# Altium integrated library Microchip Microcontroller 8-Bit PIC18.IntLib: 1312 symbols (part 5 of 56)
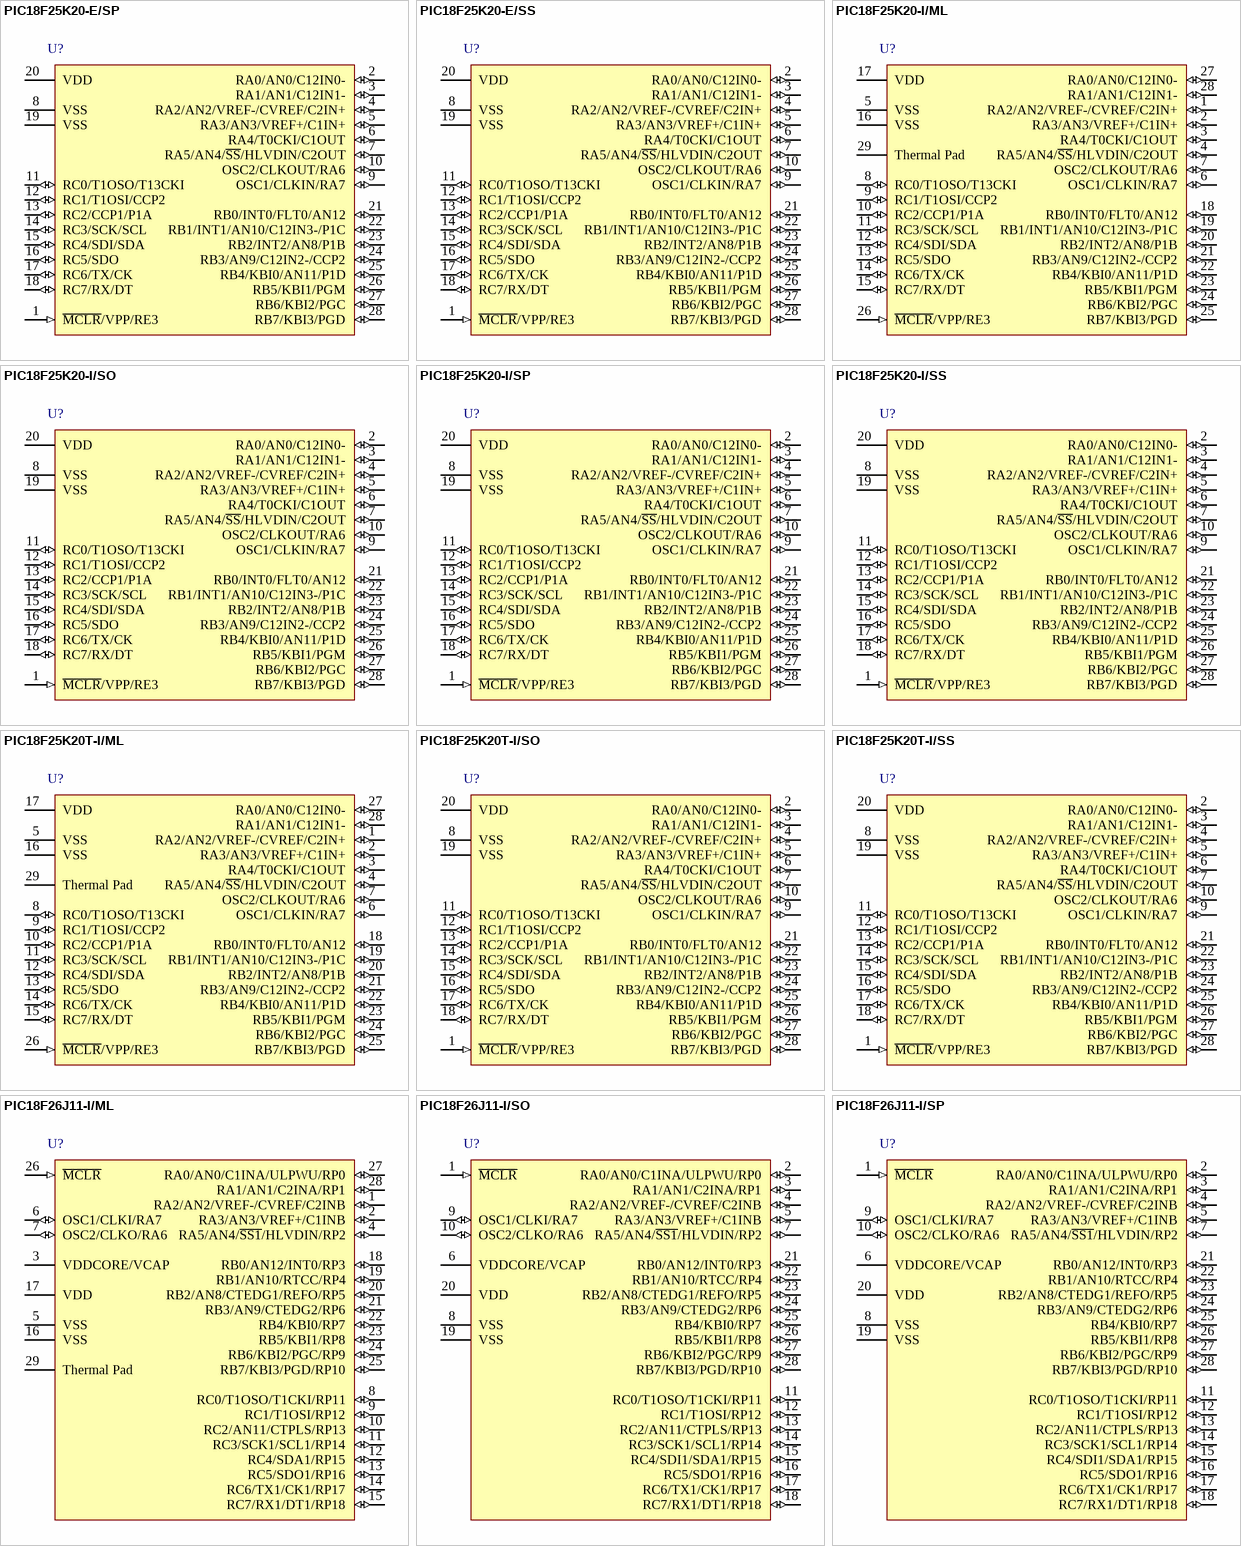
[diagram p153: symbols PIC18F25K20-E/SP to PIC18F26J11-I/SP]

## PIC18F25K20T-I/SO
designator U?
Flash Microcontroller with 10-Bit A/D and nanoWatt Technology, 32K Flash, 28-Pin SOIC, Industrial Temperature Range, Tape and Reel; Published: 29-Jan-2009; LatestRevisionDate: 02-Dec-2009; LatestRevisionNote: Updated to datasheet revision F, Sep-2009; DatasheetVersion: revF, Sep-2009; PackageVersion: revBB, Aug-2009; PackageReference: SOIC-SO28; Publisher: Altium Limited; PackageDescription: 28-Lead Plastic Small Outline (SO) - Wide 7.50mm Body [SOIC]; Supplier 1: Digi-Key; Supplier Part Number 1: PIC18F25K20T-I/SOTR-ND; Code_JEDEC: MS-013; ComponentLink1Description: Datasheet; ComponentLink1URL: http://ww1.microchip.com/downloads/en/DeviceDoc/41303F.pdf; ComponentLink2Description: Packaging Specification; ComponentLink2URL: http://www.microchip.com/stellent/groups/techpub_sg/documents/packagingspec/en012702.pdf; ComponentLink3Description: Microchip.com Home; ComponentLink3URL: http://www.microchip.com/
footprint SOIC-SO28_N (SOIC, 28-Leads, Body 17.9x7.5mm, Pitch 1.27mm, IPC Medium Density)
footprint SOIC-SO28_L (SOIC, 28-Leads, Body 17.9x7.5mm, Pitch 1.27mm, IPC High Density)
footprint SOIC-SO28_M (SOIC, 28-Leads, Body 17.9x7.5mm, Pitch 1.27mm, IPC Low Density)
pins: 1 ~{MCLR}/VPP/RE3 (in), 2 RA0/AN0/C12IN0- (io), 3 RA1/AN1/C12IN1- (io), 4 RA2/AN2/VREF-/CVREF/C2IN+ (io), 5 RA3/AN3/VREF+/C1IN+ (io), 6 RA4/T0CKI/C1OUT (io), 7 RA5/AN4/~{SS}/HLVDIN/C2OUT (io), 8 VSS (power), 9 OSC1/CLKIN/RA7 (io), 10 OSC2/CLKOUT/RA6 (io), 11 RC0/T1OSO/T13CKI (io), 12 RC1/T1OSI/CCP2 (io), 13 RC2/CCP1/P1A (io), 14 RC3/SCK/SCL (io), 15 RC4/SDI/SDA (io), 16 RC5/SDO (io), 17 RC6/TX/CK (io), 18 RC7/RX/DT (io), 19 VSS (power), 20 VDD (power), 21 RB0/INT0/FLT0/AN12 (io), 22 RB1/INT1/AN10/C12IN3-/P1C (io), 23 RB2/INT2/AN8/P1B (io), 24 RB3/AN9/C12IN2-/CCP2 (io), 25 RB4/KBI0/AN11/P1D (io), 26 RB5/KBI1/PGM (io), 27 RB6/KBI2/PGC (io), 28 RB7/KBI3/PGD (io)

## PIC18F25K20T-I/SS
designator U?
Flash Microcontroller with 10-Bit A/D and nanoWatt Technology, 32K Flash, 28-Pin SSOP, Industrial Temperature Range, Tape and Reel; Published: 29-Jan-2009; LatestRevisionDate: 02-Dec-2009; LatestRevisionNote: Updated to datasheet revision F, Sep-2009; DatasheetVersion: revF, Sep-2009; PackageVersion: revBB, Aug-2009; PackageReference: SSOP-SS28; Publisher: Altium Limited; PackageDescription: 28-Lead Plastic Shrink Small Outline (SS) - 5.3mm Body [SSOP]; Supplier 1: Digi-Key; Supplier Part Number 1: PIC18F25K20T-I/SSTR-ND; Supplier 2: Digi-Key; Supplier Part Number 2: PIC18F25K20T-I/SSCT-ND; Supplier 3: Digi-Key; Supplier Part Number 3: PIC18F25K20T-I/SSDKR-ND; Supplier 4: Farnell; Supplier Part Number 4: 1788566; Code_JEDEC: MS-150; Code_IPC: SOP65P780-28; ComponentLink1Description: Datasheet; ComponentLink1URL: http://ww1.microchip.com/downloads/en/DeviceDoc/41303F.pdf; ComponentLink2Description: Packaging Specification; ComponentLink2URL: http://www.microchip.com/stellent/groups/techpub_sg/documents/packagingspec/en012702.pdf; ComponentLink3Description: Microchip.com Home; ComponentLink3URL: http://www.microchip.com/
footprint SSOP-SS28_N (SOP, 28-Leads, Body 10.2x5.2mm, Pitch 0.65mm, IPC Medium Density)
footprint SSOP-SS28_L (SOP, 28-Leads, Body 10.2x5.2mm, Pitch 0.65mm, IPC High Density)
footprint SSOP-SS28_M (SOP, 28-Leads, Body 10.2x5.2mm, Pitch 0.65mm, IPC Low Density)
pins: 1 ~{MCLR}/VPP/RE3 (in), 2 RA0/AN0/C12IN0- (io), 3 RA1/AN1/C12IN1- (io), 4 RA2/AN2/VREF-/CVREF/C2IN+ (io), 5 RA3/AN3/VREF+/C1IN+ (io), 6 RA4/T0CKI/C1OUT (io), 7 RA5/AN4/~{SS}/HLVDIN/C2OUT (io), 8 VSS (power), 9 OSC1/CLKIN/RA7 (io), 10 OSC2/CLKOUT/RA6 (io), 11 RC0/T1OSO/T13CKI (io), 12 RC1/T1OSI/CCP2 (io), 13 RC2/CCP1/P1A (io), 14 RC3/SCK/SCL (io), 15 RC4/SDI/SDA (io), 16 RC5/SDO (io), 17 RC6/TX/CK (io), 18 RC7/RX/DT (io), 19 VSS (power), 20 VDD (power), 21 RB0/INT0/FLT0/AN12 (io), 22 RB1/INT1/AN10/C12IN3-/P1C (io), 23 RB2/INT2/AN8/P1B (io), 24 RB3/AN9/C12IN2-/CCP2 (io), 25 RB4/KBI0/AN11/P1D (io), 26 RB5/KBI1/PGM (io), 27 RB6/KBI2/PGC (io), 28 RB7/KBI3/PGD (io)

## PIC18F26J11-I/ML
designator U?
Low Power, High Performance Microcontroller with nanoWatt XLP Technology, 28-pin QFN, Industrial Temperature; Published: 2-Dec-2009; DatasheetVersion: revC, Oct-2009; PackageVersion: revBB, Aug-2009; PackageReference: QFN-ML28; Publisher: Altium Limited; PackageDescription: 28-Lead Plastic Quad Flat, No Lead Package (ML) - 6x6 mm Body [QFN] with 0.55 mm Contact Length; Supplier 1: Digi-Key; Supplier Part Number 1: PIC18F26J11-I/ML-ND; Supplier 2: Farnell; Supplier Part Number 2: 1707636; Code_JEDEC: MO-220; Code_IPC: QFN65P600X600-28V; ComponentLink1Description: Datasheet; ComponentLink1URL: http://ww1.microchip.com/downloads/en/DeviceDoc/39932c.pdf; ComponentLink2Description: Packaging Specification; ComponentLink2URL: http://www.microchip.com/stellent/groups/techpub_sg/documents/packagingspec/en012702.pdf; ComponentLink3Description: Microchip.com Home; ComponentLink3URL: http://www.microchip.com/
footprint QFN-ML28_N (QFN, 28-Leads, Body 6x6 mm, Pitch 0.65mm, IPC Medium Density)
footprint QFN-ML28_L (QFN, 28-Leads, Body 6x6 mm, Pitch 0.65mm, IPC High Density)
footprint QFN-ML28_M (QFN, 28-Leads, Body 6x6 mm, Pitch 0.65mm, IPC Low Density)
pins: 1 RA2/AN2/VREF-/CVREF/C2INB (io), 2 RA3/AN3/VREF+/C1INB (io), 3 VDDCORE/VCAP (power), 4 RA5/AN4/~{SS1}/HLVDIN/RP2 (io), 5 VSS (power), 6 OSC1/CLKI/RA7 (io), 7 OSC2/CLKO/RA6 (io), 8 RC0/T1OSO/T1CKI/RP11 (io), 9 RC1/T1OSI/RP12 (io), 10 RC2/AN11/CTPLS/RP13 (io), 11 RC3/SCK1/SCL1/RP14 (io), 12 RC4/SDA1/RP15 (io), 13 RC5/SDO1/RP16 (io), 14 RC6/TX1/CK1/RP17 (io), 15 RC7/RX1/DT1/RP18 (io), 16 VSS (power), 17 VDD (power), 18 RB0/AN12/INT0/RP3 (io), 19 RB1/AN10/RTCC/RP4 (io), 20 RB2/AN8/CTEDG1/REFO/RP5 (io), 21 RB3/AN9/CTEDG2/RP6 (io), 22 RB4/KBI0/RP7 (io), 23 RB5/KBI1/RP8 (io), 24 RB6/KBI2/PGC/RP9 (io), 25 RB7/KBI3/PGD/RP10 (io), 26 ~{MCLR} (in), 27 RA0/AN0/C1INA/ULPWU/RP0 (io), 28 RA1/AN1/C2INA/RP1 (io), 29 Thermal Pad (power)

## PIC18F26J11-I/SO
designator U?
Low Power, High Performance Microcontroller with nanoWatt XLP Technology, 28-pin SOIC, Industrial Temperature; Published: 2-Dec-2009; DatasheetVersion: revC, Oct-2009; PackageVersion: revBB, Aug-2009; PackageReference: SOIC-SO28; Publisher: Altium Limited; PackageDescription: 28-Lead Plastic Small Outline (SO) - Wide 7.50mm Body [SOIC]; Supplier 1: Digi-Key; Supplier Part Number 1: PIC18F26J11-I/SO-ND; Supplier 2: Farnell; Supplier Part Number 2: 1698918; Code_JEDEC: MS-013; ComponentLink1Description: Datasheet; ComponentLink1URL: http://ww1.microchip.com/downloads/en/DeviceDoc/39932c.pdf; ComponentLink2Description: Packaging Specification; ComponentLink2URL: http://www.microchip.com/stellent/groups/techpub_sg/documents/packagingspec/en012702.pdf; ComponentLink3Description: Microchip.com Home; ComponentLink3URL: http://www.microchip.com/
footprint SOIC-SO28_N (SOIC, 28-Leads, Body 17.9x7.5mm, Pitch 1.27mm, IPC Medium Density)
footprint SOIC-SO28_L (SOIC, 28-Leads, Body 17.9x7.5mm, Pitch 1.27mm, IPC High Density)
footprint SOIC-SO28_M (SOIC, 28-Leads, Body 17.9x7.5mm, Pitch 1.27mm, IPC Low Density)
pins: 1 ~{MCLR} (in), 2 RA0/AN0/C1INA/ULPWU/RP0 (io), 3 RA1/AN1/C2INA/RP1 (io), 4 RA2/AN2/VREF-/CVREF/C2INB (io), 5 RA3/AN3/VREF+/C1INB (io), 6 VDDCORE/VCAP (power), 7 RA5/AN4/~{SS1}/HLVDIN/RP2 (io), 8 VSS (power), 9 OSC1/CLKI/RA7 (io), 10 OSC2/CLKO/RA6 (io), 11 RC0/T1OSO/T1CKI/RP11 (io), 12 RC1/T1OSI/RP12 (io), 13 RC2/AN11/CTPLS/RP13 (io), 14 RC3/SCK1/SCL1/RP14 (io), 15 RC4/SDI1/SDA1/RP15 (io), 16 RC5/SDO1/RP16 (io), 17 RC6/TX1/CK1/RP17 (io), 18 RC7/RX1/DT1/RP18 (io), 19 VSS (power), 20 VDD (power), 21 RB0/AN12/INT0/RP3 (io), 22 RB1/AN10/RTCC/RP4 (io), 23 RB2/AN8/CTEDG1/REFO/RP5 (io), 24 RB3/AN9/CTEDG2/RP6 (io), 25 RB4/KBI0/RP7 (io), 26 RB5/KBI1/RP8 (io), 27 RB6/KBI2/PGC/RP9 (io), 28 RB7/KBI3/PGD/RP10 (io)

## PIC18F26J11-I/SP
designator U?
Low Power, High Performance Microcontroller with nanoWatt XLP Technology, 28-pin SPDIP, Industrial Temperature; Published: 2-Dec-2009; DatasheetVersion: revC, Oct-2009; PackageVersion: revBB, Aug-2009; PackageReference: SPDIP300-SP28; Publisher: Altium Limited; PackageDescription: 28-Lead Skinny Plastic Dual In-Line (SP) - 300 mil Body [SPDIP]; Supplier 1: Digi-Key; Supplier Part Number 1: PIC18F26J11-I/SP-ND; Supplier 2: Farnell; Supplier Part Number 2: 1702899; ComponentLink1Description: Datasheet; ComponentLink1URL: http://ww1.microchip.com/downloads/en/DeviceDoc/39932c.pdf; ComponentLink2Description: Packaging Specification; ComponentLink2URL: http://www.microchip.com/stellent/groups/techpub_sg/documents/packagingspec/en012702.pdf; ComponentLink3Description: Microchip.com Home; ComponentLink3URL: http://www.microchip.com/
footprint SPDIP300-SP28 (DIP, 28-Leads, Row Spacing 7.62mm, Pitch 2.54mm, Body 34.9x6.8mm)
pins: 1 ~{MCLR} (in), 2 RA0/AN0/C1INA/ULPWU/RP0 (io), 3 RA1/AN1/C2INA/RP1 (io), 4 RA2/AN2/VREF-/CVREF/C2INB (io), 5 RA3/AN3/VREF+/C1INB (io), 6 VDDCORE/VCAP (power), 7 RA5/AN4/~{SS1}/HLVDIN/RP2 (io), 8 VSS (power), 9 OSC1/CLKI/RA7 (io), 10 OSC2/CLKO/RA6 (io), 11 RC0/T1OSO/T1CKI/RP11 (io), 12 RC1/T1OSI/RP12 (io), 13 RC2/AN11/CTPLS/RP13 (io), 14 RC3/SCK1/SCL1/RP14 (io), 15 RC4/SDI1/SDA1/RP15 (io), 16 RC5/SDO1/RP16 (io), 17 RC6/TX1/CK1/RP17 (io), 18 RC7/RX1/DT1/RP18 (io), 19 VSS (power), 20 VDD (power), 21 RB0/AN12/INT0/RP3 (io), 22 RB1/AN10/RTCC/RP4 (io), 23 RB2/AN8/CTEDG1/REFO/RP5 (io), 24 RB3/AN9/CTEDG2/RP6 (io), 25 RB4/KBI0/RP7 (io), 26 RB5/KBI1/RP8 (io), 27 RB6/KBI2/PGC/RP9 (io), 28 RB7/KBI3/PGD/RP10 (io)

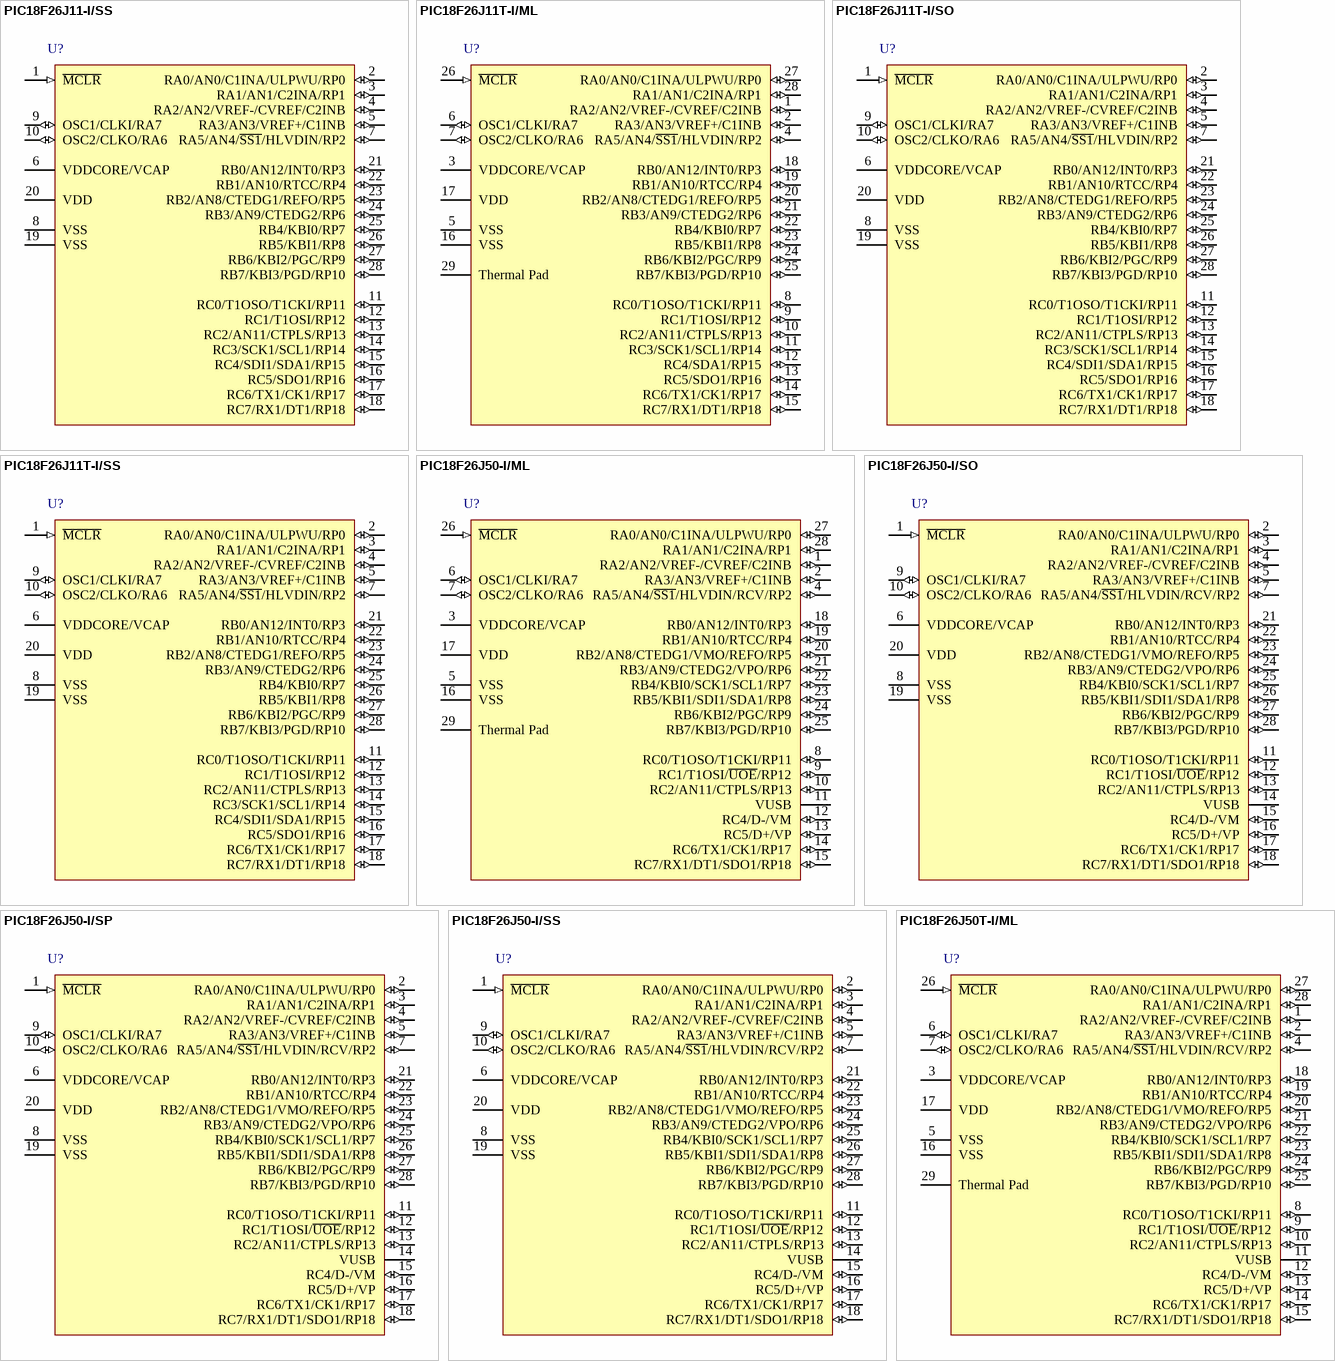
[diagram p10: symbols PIC18F26J11-I/SS to PIC18F26J50T-I/ML]

## PIC18F26J11-I/SS
designator U?
Low Power, High Performance Microcontroller with nanoWatt XLP Technology, 28-pin SSOP, Industrial Temperature; Published: 2-Dec-2009; DatasheetVersion: revC, Oct-2009; PackageVersion: revBB, Aug-2009; PackageReference: SSOP-SS28; Publisher: Altium Limited; PackageDescription: 28-Lead Plastic Shrink Small Outline (SS) - 5.3mm Body [SSOP]; Supplier 1: Digi-Key; Supplier Part Number 1: PIC18F26J11-I/SS-ND; Supplier 2: Farnell; Supplier Part Number 2: 1706306; Code_JEDEC: MS-150; Code_IPC: SOP65P780-28; ComponentLink1Description: Datasheet; ComponentLink1URL: http://ww1.microchip.com/downloads/en/DeviceDoc/39932c.pdf; ComponentLink2Description: Packaging Specification; ComponentLink2URL: http://www.microchip.com/stellent/groups/techpub_sg/documents/packagingspec/en012702.pdf; ComponentLink3Description: Microchip.com Home; ComponentLink3URL: http://www.microchip.com/
footprint SSOP-SS28_N (SOP, 28-Leads, Body 10.2x5.2mm, Pitch 0.65mm, IPC Medium Density)
footprint SSOP-SS28_L (SOP, 28-Leads, Body 10.2x5.2mm, Pitch 0.65mm, IPC High Density)
footprint SSOP-SS28_M (SOP, 28-Leads, Body 10.2x5.2mm, Pitch 0.65mm, IPC Low Density)
pins: 1 ~{MCLR} (in), 2 RA0/AN0/C1INA/ULPWU/RP0 (io), 3 RA1/AN1/C2INA/RP1 (io), 4 RA2/AN2/VREF-/CVREF/C2INB (io), 5 RA3/AN3/VREF+/C1INB (io), 6 VDDCORE/VCAP (power), 7 RA5/AN4/~{SS1}/HLVDIN/RP2 (io), 8 VSS (power), 9 OSC1/CLKI/RA7 (io), 10 OSC2/CLKO/RA6 (io), 11 RC0/T1OSO/T1CKI/RP11 (io), 12 RC1/T1OSI/RP12 (io), 13 RC2/AN11/CTPLS/RP13 (io), 14 RC3/SCK1/SCL1/RP14 (io), 15 RC4/SDI1/SDA1/RP15 (io), 16 RC5/SDO1/RP16 (io), 17 RC6/TX1/CK1/RP17 (io), 18 RC7/RX1/DT1/RP18 (io), 19 VSS (power), 20 VDD (power), 21 RB0/AN12/INT0/RP3 (io), 22 RB1/AN10/RTCC/RP4 (io), 23 RB2/AN8/CTEDG1/REFO/RP5 (io), 24 RB3/AN9/CTEDG2/RP6 (io), 25 RB4/KBI0/RP7 (io), 26 RB5/KBI1/RP8 (io), 27 RB6/KBI2/PGC/RP9 (io), 28 RB7/KBI3/PGD/RP10 (io)

## PIC18F26J11T-I/ML
designator U?
Low Power, High Performance Microcontroller with nanoWatt XLP Technology, 28-pin QFN, Industrial Temperature, Tape and Reel; Published: 2-Dec-2009; DatasheetVersion: revC, Oct-2009; PackageVersion: revBB, Aug-2009; PackageReference: QFN-ML28; Publisher: Altium Limited; PackageDescription: 28-Lead Plastic Quad Flat, No Lead Package (ML) - 6x6 mm Body [QFN] with 0.55 mm Contact Length; Supplier 1: Digi-Key; Supplier Part Number 1: PIC18F26J11T-I/ML-ND; Code_JEDEC: MO-220; Code_IPC: QFN65P600X600-28V; ComponentLink1Description: Datasheet; ComponentLink1URL: http://ww1.microchip.com/downloads/en/DeviceDoc/39932c.pdf; ComponentLink2Description: Packaging Specification; ComponentLink2URL: http://www.microchip.com/stellent/groups/techpub_sg/documents/packagingspec/en012702.pdf; ComponentLink3Description: Microchip.com Home; ComponentLink3URL: http://www.microchip.com/
footprint QFN-ML28_N (QFN, 28-Leads, Body 6x6 mm, Pitch 0.65mm, IPC Medium Density)
footprint QFN-ML28_L (QFN, 28-Leads, Body 6x6 mm, Pitch 0.65mm, IPC High Density)
footprint QFN-ML28_M (QFN, 28-Leads, Body 6x6 mm, Pitch 0.65mm, IPC Low Density)
pins: 1 RA2/AN2/VREF-/CVREF/C2INB (io), 2 RA3/AN3/VREF+/C1INB (io), 3 VDDCORE/VCAP (power), 4 RA5/AN4/~{SS1}/HLVDIN/RP2 (io), 5 VSS (power), 6 OSC1/CLKI/RA7 (io), 7 OSC2/CLKO/RA6 (io), 8 RC0/T1OSO/T1CKI/RP11 (io), 9 RC1/T1OSI/RP12 (io), 10 RC2/AN11/CTPLS/RP13 (io), 11 RC3/SCK1/SCL1/RP14 (io), 12 RC4/SDA1/RP15 (io), 13 RC5/SDO1/RP16 (io), 14 RC6/TX1/CK1/RP17 (io), 15 RC7/RX1/DT1/RP18 (io), 16 VSS (power), 17 VDD (power), 18 RB0/AN12/INT0/RP3 (io), 19 RB1/AN10/RTCC/RP4 (io), 20 RB2/AN8/CTEDG1/REFO/RP5 (io), 21 RB3/AN9/CTEDG2/RP6 (io), 22 RB4/KBI0/RP7 (io), 23 RB5/KBI1/RP8 (io), 24 RB6/KBI2/PGC/RP9 (io), 25 RB7/KBI3/PGD/RP10 (io), 26 ~{MCLR} (in), 27 RA0/AN0/C1INA/ULPWU/RP0 (io), 28 RA1/AN1/C2INA/RP1 (io), 29 Thermal Pad (power)

## PIC18F26J11T-I/SO
designator U?
Low Power, High Performance Microcontroller with nanoWatt XLP Technology, 28-pin SOIC, Industrial Temperature, Tape and Reel; Published: 2-Dec-2009; DatasheetVersion: revC, Oct-2009; PackageVersion: revBB, Aug-2009; PackageReference: SOIC-SO28; Publisher: Altium Limited; PackageDescription: 28-Lead Plastic Small Outline (SO) - Wide 7.50mm Body [SOIC]; Supplier 1: Digi-Key; Supplier Part Number 1: PIC18F26J11T-I/SO-ND; Code_JEDEC: MS-013; ComponentLink1Description: Datasheet; ComponentLink1URL: http://ww1.microchip.com/downloads/en/DeviceDoc/39932c.pdf; ComponentLink2Description: Packaging Specification; ComponentLink2URL: http://www.microchip.com/stellent/groups/techpub_sg/documents/packagingspec/en012702.pdf; ComponentLink3Description: Microchip.com Home; ComponentLink3URL: http://www.microchip.com/
footprint SOIC-SO28_N (SOIC, 28-Leads, Body 17.9x7.5mm, Pitch 1.27mm, IPC Medium Density)
footprint SOIC-SO28_L (SOIC, 28-Leads, Body 17.9x7.5mm, Pitch 1.27mm, IPC High Density)
footprint SOIC-SO28_M (SOIC, 28-Leads, Body 17.9x7.5mm, Pitch 1.27mm, IPC Low Density)
pins: 1 ~{MCLR} (in), 2 RA0/AN0/C1INA/ULPWU/RP0 (io), 3 RA1/AN1/C2INA/RP1 (io), 4 RA2/AN2/VREF-/CVREF/C2INB (io), 5 RA3/AN3/VREF+/C1INB (io), 6 VDDCORE/VCAP (power), 7 RA5/AN4/~{SS1}/HLVDIN/RP2 (io), 8 VSS (power), 9 OSC1/CLKI/RA7 (io), 10 OSC2/CLKO/RA6 (io), 11 RC0/T1OSO/T1CKI/RP11 (io), 12 RC1/T1OSI/RP12 (io), 13 RC2/AN11/CTPLS/RP13 (io), 14 RC3/SCK1/SCL1/RP14 (io), 15 RC4/SDI1/SDA1/RP15 (io), 16 RC5/SDO1/RP16 (io), 17 RC6/TX1/CK1/RP17 (io), 18 RC7/RX1/DT1/RP18 (io), 19 VSS (power), 20 VDD (power), 21 RB0/AN12/INT0/RP3 (io), 22 RB1/AN10/RTCC/RP4 (io), 23 RB2/AN8/CTEDG1/REFO/RP5 (io), 24 RB3/AN9/CTEDG2/RP6 (io), 25 RB4/KBI0/RP7 (io), 26 RB5/KBI1/RP8 (io), 27 RB6/KBI2/PGC/RP9 (io), 28 RB7/KBI3/PGD/RP10 (io)

## PIC18F26J11T-I/SS
designator U?
Low Power, High Performance Microcontroller with nanoWatt XLP Technology, 28-pin SSOP, Industrial Temperature, Tape and Reel; Published: 2-Dec-2009; DatasheetVersion: revC, Oct-2009; PackageVersion: revBB, Aug-2009; PackageReference: SSOP-SS28; Publisher: Altium Limited; PackageDescription: 28-Lead Plastic Shrink Small Outline (SS) - 5.3mm Body [SSOP]; Supplier 1: Digi-Key; Supplier Part Number 1: PIC18F26J11T-I/SS-ND; Code_JEDEC: MS-150; Code_IPC: SOP65P780-28; ComponentLink1Description: Datasheet; ComponentLink1URL: http://ww1.microchip.com/downloads/en/DeviceDoc/39932c.pdf; ComponentLink2Description: Packaging Specification; ComponentLink2URL: http://www.microchip.com/stellent/groups/techpub_sg/documents/packagingspec/en012702.pdf; ComponentLink3Description: Microchip.com Home; ComponentLink3URL: http://www.microchip.com/
footprint SSOP-SS28_N (SOP, 28-Leads, Body 10.2x5.2mm, Pitch 0.65mm, IPC Medium Density)
footprint SSOP-SS28_L (SOP, 28-Leads, Body 10.2x5.2mm, Pitch 0.65mm, IPC High Density)
footprint SSOP-SS28_M (SOP, 28-Leads, Body 10.2x5.2mm, Pitch 0.65mm, IPC Low Density)
pins: 1 ~{MCLR} (in), 2 RA0/AN0/C1INA/ULPWU/RP0 (io), 3 RA1/AN1/C2INA/RP1 (io), 4 RA2/AN2/VREF-/CVREF/C2INB (io), 5 RA3/AN3/VREF+/C1INB (io), 6 VDDCORE/VCAP (power), 7 RA5/AN4/~{SS1}/HLVDIN/RP2 (io), 8 VSS (power), 9 OSC1/CLKI/RA7 (io), 10 OSC2/CLKO/RA6 (io), 11 RC0/T1OSO/T1CKI/RP11 (io), 12 RC1/T1OSI/RP12 (io), 13 RC2/AN11/CTPLS/RP13 (io), 14 RC3/SCK1/SCL1/RP14 (io), 15 RC4/SDI1/SDA1/RP15 (io), 16 RC5/SDO1/RP16 (io), 17 RC6/TX1/CK1/RP17 (io), 18 RC7/RX1/DT1/RP18 (io), 19 VSS (power), 20 VDD (power), 21 RB0/AN12/INT0/RP3 (io), 22 RB1/AN10/RTCC/RP4 (io), 23 RB2/AN8/CTEDG1/REFO/RP5 (io), 24 RB3/AN9/CTEDG2/RP6 (io), 25 RB4/KBI0/RP7 (io), 26 RB5/KBI1/RP8 (io), 27 RB6/KBI2/PGC/RP9 (io), 28 RB7/KBI3/PGD/RP10 (io)

## PIC18F26J50-I/ML
designator U?
Low Power, High Performance USB Microcontroller with nanoWatt XLP Technology, 28-pin QFN, Industrial Temperature; Published: 2-Dec-2009; DatasheetVersion: revC, Oct-2009; PackageVersion: revBB, Aug-2009; PackageReference: QFN-ML28; Publisher: Altium Limited; PackageDescription: 28-Lead Plastic Quad Flat, No Lead Package (ML) - 6x6 mm Body [QFN] with 0.55 mm Contact Length; Supplier 1: Digi-Key; Supplier Part Number 1: PIC18F26J50-I/ML-ND; Supplier 2: Farnell; Supplier Part Number 2: 1706307; Code_JEDEC: MO-220; Code_IPC: QFN65P600X600-28V; ComponentLink1Description: Datasheet; ComponentLink1URL: http://ww1.microchip.com/downloads/en/DeviceDoc/39931c.pdf; ComponentLink2Description: Packaging Specification; ComponentLink2URL: http://www.microchip.com/stellent/groups/techpub_sg/documents/packagingspec/en012702.pdf; ComponentLink3Description: Microchip.com Home; ComponentLink3URL: http://www.microchip.com/
footprint QFN-ML28_N (QFN, 28-Leads, Body 6x6 mm, Pitch 0.65mm, IPC Medium Density)
footprint QFN-ML28_L (QFN, 28-Leads, Body 6x6 mm, Pitch 0.65mm, IPC High Density)
footprint QFN-ML28_M (QFN, 28-Leads, Body 6x6 mm, Pitch 0.65mm, IPC Low Density)
pins: 1 RA2/AN2/VREF-/CVREF/C2INB (io), 2 RA3/AN3/VREF+/C1INB (io), 3 VDDCORE/VCAP (power), 4 RA5/AN4/~{SS1}/HLVDIN/RCV/RP2 (io), 5 VSS (power), 6 OSC1/CLKI/RA7 (io), 7 OSC2/CLKO/RA6 (io), 8 RC0/T1OSO/T1CKI/RP11 (io), 9 RC1/T1OSI/~{UOE}/RP12 (io), 10 RC2/AN11/CTPLS/RP13 (io), 11 VUSB (power), 12 RC4/D-/VM (io), 13 RC5/D+/VP (io), 14 RC6/TX1/CK1/RP17 (io), 15 RC7/RX1/DT1/SDO1/RP18 (io), 16 VSS (power), 17 VDD (power), 18 RB0/AN12/INT0/RP3 (io), 19 RB1/AN10/RTCC/RP4 (io), 20 RB2/AN8/CTEDG1/VMO/REFO/RP5 (io), 21 RB3/AN9/CTEDG2/VPO/RP6 (io), 22 RB4/KBI0/SCK1/SCL1/RP7 (io), 23 RB5/KBI1/SDI1/SDA1/RP8 (io), 24 RB6/KBI2/PGC/RP9 (io), 25 RB7/KBI3/PGD/RP10 (io), 26 ~{MCLR} (in), 27 RA0/AN0/C1INA/ULPWU/RP0 (io), 28 RA1/AN1/C2INA/RP1 (io), 29 Thermal Pad (power)

## PIC18F26J50-I/SO
designator U?
Low Power, High Performance USB Microcontroller with nanoWatt XLP Technology, 28-pin SOIC, Industrial Temperature; Published: 2-Dec-2009; DatasheetVersion: revC, Oct-2009; PackageVersion: revBB, Aug-2009; PackageReference: SOIC-SO28; Publisher: Altium Limited; PackageDescription: 28-Lead Plastic Small Outline (SO) - Wide 7.50mm Body [SOIC]; Supplier 1: Digi-Key; Supplier Part Number 1: PIC18F26J50-I/SO-ND; Supplier 2: Farnell; Supplier Part Number 2: 1706308; Code_JEDEC: MS-013; ComponentLink1Description: Datasheet; ComponentLink1URL: http://ww1.microchip.com/downloads/en/DeviceDoc/39931c.pdf; ComponentLink2Description: Packaging Specification; ComponentLink2URL: http://www.microchip.com/stellent/groups/techpub_sg/documents/packagingspec/en012702.pdf; ComponentLink3Description: Microchip.com Home; ComponentLink3URL: http://www.microchip.com/
footprint SOIC-SO28_N (SOIC, 28-Leads, Body 17.9x7.5mm, Pitch 1.27mm, IPC Medium Density)
footprint SOIC-SO28_L (SOIC, 28-Leads, Body 17.9x7.5mm, Pitch 1.27mm, IPC High Density)
footprint SOIC-SO28_M (SOIC, 28-Leads, Body 17.9x7.5mm, Pitch 1.27mm, IPC Low Density)
pins: 1 ~{MCLR} (in), 2 RA0/AN0/C1INA/ULPWU/RP0 (io), 3 RA1/AN1/C2INA/RP1 (io), 4 RA2/AN2/VREF-/CVREF/C2INB (io), 5 RA3/AN3/VREF+/C1INB (io), 6 VDDCORE/VCAP (power), 7 RA5/AN4/~{SS1}/HLVDIN/RCV/RP2 (io), 8 VSS (power), 9 OSC1/CLKI/RA7 (io), 10 OSC2/CLKO/RA6 (io), 11 RC0/T1OSO/T1CKI/RP11 (io), 12 RC1/T1OSI/~{UOE}/RP12 (io), 13 RC2/AN11/CTPLS/RP13 (io), 14 VUSB (power), 15 RC4/D-/VM (io), 16 RC5/D+/VP (io), 17 RC6/TX1/CK1/RP17 (io), 18 RC7/RX1/DT1/SDO1/RP18 (io), 19 VSS (power), 20 VDD (power), 21 RB0/AN12/INT0/RP3 (io), 22 RB1/AN10/RTCC/RP4 (io), 23 RB2/AN8/CTEDG1/VMO/REFO/RP5 (io), 24 RB3/AN9/CTEDG2/VPO/RP6 (io), 25 RB4/KBI0/SCK1/SCL1/RP7 (io), 26 RB5/KBI1/SDI1/SDA1/RP8 (io), 27 RB6/KBI2/PGC/RP9 (io), 28 RB7/KBI3/PGD/RP10 (io)

## PIC18F26J50-I/SP
designator U?
Low Power, High Performance USB Microcontroller with nanoWatt XLP Technology, 28-pin SPDIP, Industrial Temperature; Published: 2-Dec-2009; DatasheetVersion: revC, Oct-2009; PackageVersion: revBB, Aug-2009; PackageReference: SPDIP300-SP28; Publisher: Altium Limited; PackageDescription: 28-Lead Skinny Plastic Dual In-Line (SP) - 300 mil Body [SPDIP]; Supplier 1: Digi-Key; Supplier Part Number 1: PIC18F26J50-I/SP-ND; Supplier 2: Farnell; Supplier Part Number 2: 1706309; ComponentLink1Description: Datasheet; ComponentLink1URL: http://ww1.microchip.com/downloads/en/DeviceDoc/39931c.pdf; ComponentLink2Description: Packaging Specification; ComponentLink2URL: http://www.microchip.com/stellent/groups/techpub_sg/documents/packagingspec/en012702.pdf; ComponentLink3Description: Microchip.com Home; ComponentLink3URL: http://www.microchip.com/
footprint SPDIP300-SP28 (DIP, 28-Leads, Row Spacing 7.62mm, Pitch 2.54mm, Body 34.9x6.8mm)
pins: 1 ~{MCLR} (in), 2 RA0/AN0/C1INA/ULPWU/RP0 (io), 3 RA1/AN1/C2INA/RP1 (io), 4 RA2/AN2/VREF-/CVREF/C2INB (io), 5 RA3/AN3/VREF+/C1INB (io), 6 VDDCORE/VCAP (power), 7 RA5/AN4/~{SS1}/HLVDIN/RCV/RP2 (io), 8 VSS (power), 9 OSC1/CLKI/RA7 (io), 10 OSC2/CLKO/RA6 (io), 11 RC0/T1OSO/T1CKI/RP11 (io), 12 RC1/T1OSI/~{UOE}/RP12 (io), 13 RC2/AN11/CTPLS/RP13 (io), 14 VUSB (power), 15 RC4/D-/VM (io), 16 RC5/D+/VP (io), 17 RC6/TX1/CK1/RP17 (io), 18 RC7/RX1/DT1/SDO1/RP18 (io), 19 VSS (power), 20 VDD (power), 21 RB0/AN12/INT0/RP3 (io), 22 RB1/AN10/RTCC/RP4 (io), 23 RB2/AN8/CTEDG1/VMO/REFO/RP5 (io), 24 RB3/AN9/CTEDG2/VPO/RP6 (io), 25 RB4/KBI0/SCK1/SCL1/RP7 (io), 26 RB5/KBI1/SDI1/SDA1/RP8 (io), 27 RB6/KBI2/PGC/RP9 (io), 28 RB7/KBI3/PGD/RP10 (io)

## PIC18F26J50-I/SS
designator U?
Low Power, High Performance USB Microcontroller with nanoWatt XLP Technology, 28-pin SSOP, Industrial Temperature; Published: 2-Dec-2009; DatasheetVersion: revC, Oct-2009; PackageVersion: revBB, Aug-2009; PackageReference: SSOP-SS28; Publisher: Altium Limited; PackageDescription: 28-Lead Plastic Shrink Small Outline (SS) - 5.3mm Body [SSOP]; Supplier 1: Digi-Key; Supplier Part Number 1: PIC18F26J50-I/SS-ND; Supplier 2: Farnell; Supplier Part Number 2: 1706310; Code_JEDEC: MS-150; Code_IPC: SOP65P780-28; ComponentLink1Description: Datasheet; ComponentLink1URL: http://ww1.microchip.com/downloads/en/DeviceDoc/39931c.pdf; ComponentLink2Description: Packaging Specification; ComponentLink2URL: http://www.microchip.com/stellent/groups/techpub_sg/documents/packagingspec/en012702.pdf; ComponentLink3Description: Microchip.com Home; ComponentLink3URL: http://www.microchip.com/
footprint SSOP-SS28_N (SOP, 28-Leads, Body 10.2x5.2mm, Pitch 0.65mm, IPC Medium Density)
footprint SSOP-SS28_L (SOP, 28-Leads, Body 10.2x5.2mm, Pitch 0.65mm, IPC High Density)
footprint SSOP-SS28_M (SOP, 28-Leads, Body 10.2x5.2mm, Pitch 0.65mm, IPC Low Density)
pins: 1 ~{MCLR} (in), 2 RA0/AN0/C1INA/ULPWU/RP0 (io), 3 RA1/AN1/C2INA/RP1 (io), 4 RA2/AN2/VREF-/CVREF/C2INB (io), 5 RA3/AN3/VREF+/C1INB (io), 6 VDDCORE/VCAP (power), 7 RA5/AN4/~{SS1}/HLVDIN/RCV/RP2 (io), 8 VSS (power), 9 OSC1/CLKI/RA7 (io), 10 OSC2/CLKO/RA6 (io), 11 RC0/T1OSO/T1CKI/RP11 (io), 12 RC1/T1OSI/~{UOE}/RP12 (io), 13 RC2/AN11/CTPLS/RP13 (io), 14 VUSB (power), 15 RC4/D-/VM (io), 16 RC5/D+/VP (io), 17 RC6/TX1/CK1/RP17 (io), 18 RC7/RX1/DT1/SDO1/RP18 (io), 19 VSS (power), 20 VDD (power), 21 RB0/AN12/INT0/RP3 (io), 22 RB1/AN10/RTCC/RP4 (io), 23 RB2/AN8/CTEDG1/VMO/REFO/RP5 (io), 24 RB3/AN9/CTEDG2/VPO/RP6 (io), 25 RB4/KBI0/SCK1/SCL1/RP7 (io), 26 RB5/KBI1/SDI1/SDA1/RP8 (io), 27 RB6/KBI2/PGC/RP9 (io), 28 RB7/KBI3/PGD/RP10 (io)

## PIC18F26J50T-I/ML
designator U?
Low Power, High Performance USB Microcontroller with nanoWatt XLP Technology, 28-pin QFN, Industrial Temperature, Tape and Reel; Published: 2-Dec-2009; DatasheetVersion: revC, Oct-2009; PackageVersion: revBB, Aug-2009; PackageReference: QFN-ML28; Publisher: Altium Limited; PackageDescription: 28-Lead Plastic Quad Flat, No Lead Package (ML) - 6x6 mm Body [QFN] with 0.55 mm Contact Length; Supplier 1: Digi-Key; Supplier Part Number 1: PIC18F26J50T-I/ML-ND; Code_JEDEC: MO-220; Code_IPC: QFN65P600X600-28V; ComponentLink1Description: Datasheet; ComponentLink1URL: http://ww1.microchip.com/downloads/en/DeviceDoc/39931c.pdf; ComponentLink2Description: Packaging Specification; ComponentLink2URL: http://www.microchip.com/stellent/groups/techpub_sg/documents/packagingspec/en012702.pdf; ComponentLink3Description: Microchip.com Home; ComponentLink3URL: http://www.microchip.com/
footprint QFN-ML28_N (QFN, 28-Leads, Body 6x6 mm, Pitch 0.65mm, IPC Medium Density)
footprint QFN-ML28_L (QFN, 28-Leads, Body 6x6 mm, Pitch 0.65mm, IPC High Density)
footprint QFN-ML28_M (QFN, 28-Leads, Body 6x6 mm, Pitch 0.65mm, IPC Low Density)
pins: 1 RA2/AN2/VREF-/CVREF/C2INB (io), 2 RA3/AN3/VREF+/C1INB (io), 3 VDDCORE/VCAP (power), 4 RA5/AN4/~{SS1}/HLVDIN/RCV/RP2 (io), 5 VSS (power), 6 OSC1/CLKI/RA7 (io), 7 OSC2/CLKO/RA6 (io), 8 RC0/T1OSO/T1CKI/RP11 (io), 9 RC1/T1OSI/~{UOE}/RP12 (io), 10 RC2/AN11/CTPLS/RP13 (io), 11 VUSB (power), 12 RC4/D-/VM (io), 13 RC5/D+/VP (io), 14 RC6/TX1/CK1/RP17 (io), 15 RC7/RX1/DT1/SDO1/RP18 (io), 16 VSS (power), 17 VDD (power), 18 RB0/AN12/INT0/RP3 (io), 19 RB1/AN10/RTCC/RP4 (io), 20 RB2/AN8/CTEDG1/VMO/REFO/RP5 (io), 21 RB3/AN9/CTEDG2/VPO/RP6 (io), 22 RB4/KBI0/SCK1/SCL1/RP7 (io), 23 RB5/KBI1/SDI1/SDA1/RP8 (io), 24 RB6/KBI2/PGC/RP9 (io), 25 RB7/KBI3/PGD/RP10 (io), 26 ~{MCLR} (in), 27 RA0/AN0/C1INA/ULPWU/RP0 (io), 28 RA1/AN1/C2INA/RP1 (io), 29 Thermal Pad (power)

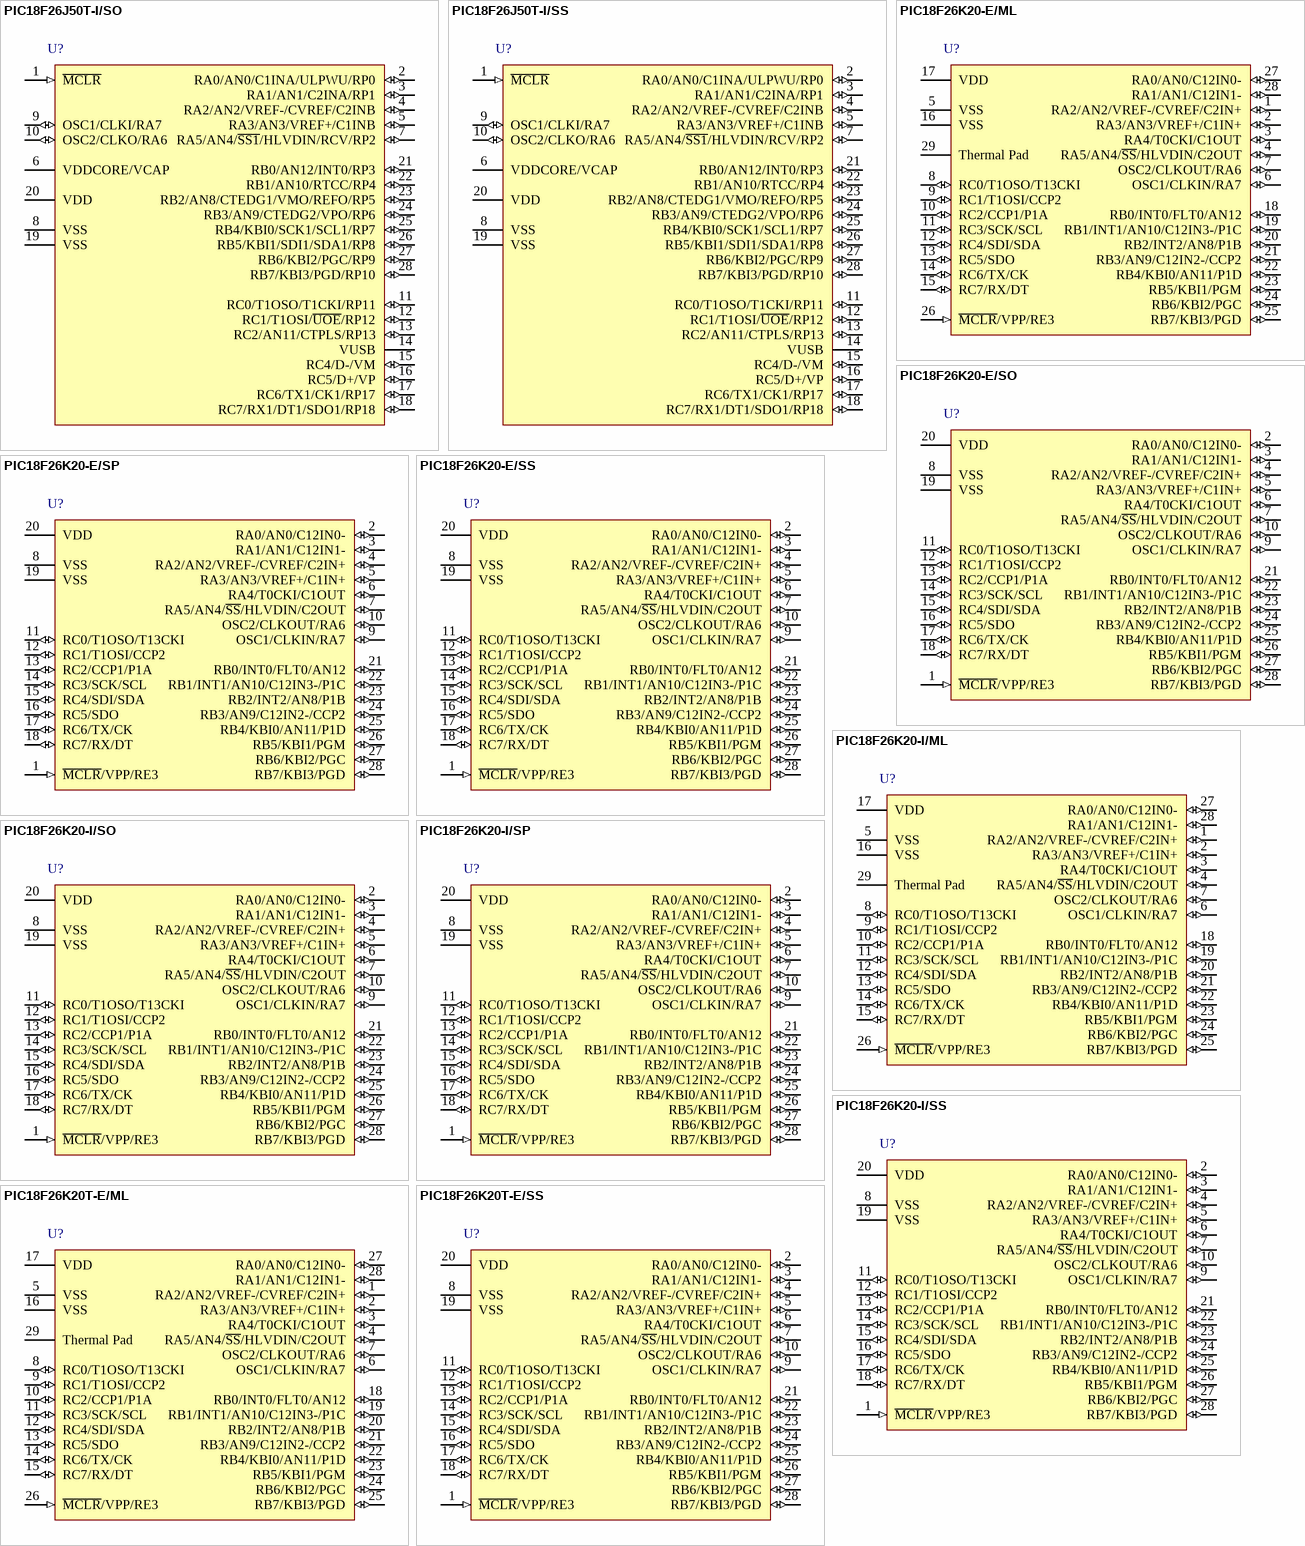
[diagram p11: symbols PIC18F26J50T-I/SO to PIC18F26K20T-E/SS]

## PIC18F26J50T-I/SO
designator U?
Low Power, High Performance USB Microcontroller with nanoWatt XLP Technology, 28-pin SOIC, Industrial Temperature, Tape and Reel; Published: 2-Dec-2009; DatasheetVersion: revC, Oct-2009; PackageVersion: revBB, Aug-2009; PackageReference: SOIC-SO28; Publisher: Altium Limited; PackageDescription: 28-Lead Plastic Small Outline (SO) - Wide 7.50mm Body [SOIC]; Supplier 1: Digi-Key; Supplier Part Number 1: PIC18F26J50T-I/SO-ND; Code_JEDEC: MS-013; ComponentLink1Description: Datasheet; ComponentLink1URL: http://ww1.microchip.com/downloads/en/DeviceDoc/39931c.pdf; ComponentLink2Description: Packaging Specification; ComponentLink2URL: http://www.microchip.com/stellent/groups/techpub_sg/documents/packagingspec/en012702.pdf; ComponentLink3Description: Microchip.com Home; ComponentLink3URL: http://www.microchip.com/
footprint SOIC-SO28_N (SOIC, 28-Leads, Body 17.9x7.5mm, Pitch 1.27mm, IPC Medium Density)
footprint SOIC-SO28_L (SOIC, 28-Leads, Body 17.9x7.5mm, Pitch 1.27mm, IPC High Density)
footprint SOIC-SO28_M (SOIC, 28-Leads, Body 17.9x7.5mm, Pitch 1.27mm, IPC Low Density)
pins: 1 ~{MCLR} (in), 2 RA0/AN0/C1INA/ULPWU/RP0 (io), 3 RA1/AN1/C2INA/RP1 (io), 4 RA2/AN2/VREF-/CVREF/C2INB (io), 5 RA3/AN3/VREF+/C1INB (io), 6 VDDCORE/VCAP (power), 7 RA5/AN4/~{SS1}/HLVDIN/RCV/RP2 (io), 8 VSS (power), 9 OSC1/CLKI/RA7 (io), 10 OSC2/CLKO/RA6 (io), 11 RC0/T1OSO/T1CKI/RP11 (io), 12 RC1/T1OSI/~{UOE}/RP12 (io), 13 RC2/AN11/CTPLS/RP13 (io), 14 VUSB (power), 15 RC4/D-/VM (io), 16 RC5/D+/VP (io), 17 RC6/TX1/CK1/RP17 (io), 18 RC7/RX1/DT1/SDO1/RP18 (io), 19 VSS (power), 20 VDD (power), 21 RB0/AN12/INT0/RP3 (io), 22 RB1/AN10/RTCC/RP4 (io), 23 RB2/AN8/CTEDG1/VMO/REFO/RP5 (io), 24 RB3/AN9/CTEDG2/VPO/RP6 (io), 25 RB4/KBI0/SCK1/SCL1/RP7 (io), 26 RB5/KBI1/SDI1/SDA1/RP8 (io), 27 RB6/KBI2/PGC/RP9 (io), 28 RB7/KBI3/PGD/RP10 (io)

## PIC18F26J50T-I/SS
designator U?
Low Power, High Performance USB Microcontroller with nanoWatt XLP Technology, 28-pin SSOP, Industrial Temperature, Tape and Reel; Published: 2-Dec-2009; DatasheetVersion: revC, Oct-2009; PackageVersion: revBB, Aug-2009; PackageReference: SSOP-SS28; Publisher: Altium Limited; PackageDescription: 28-Lead Plastic Shrink Small Outline (SS) - 5.3mm Body [SSOP]; Supplier 1: Digi-Key; Supplier Part Number 1: PIC18F26J50T-I/SS-ND; Code_JEDEC: MS-150; Code_IPC: SOP65P780-28; ComponentLink1Description: Datasheet; ComponentLink1URL: http://ww1.microchip.com/downloads/en/DeviceDoc/39931c.pdf; ComponentLink2Description: Packaging Specification; ComponentLink2URL: http://www.microchip.com/stellent/groups/techpub_sg/documents/packagingspec/en012702.pdf; ComponentLink3Description: Microchip.com Home; ComponentLink3URL: http://www.microchip.com/
footprint SSOP-SS28_N (SOP, 28-Leads, Body 10.2x5.2mm, Pitch 0.65mm, IPC Medium Density)
footprint SSOP-SS28_L (SOP, 28-Leads, Body 10.2x5.2mm, Pitch 0.65mm, IPC High Density)
footprint SSOP-SS28_M (SOP, 28-Leads, Body 10.2x5.2mm, Pitch 0.65mm, IPC Low Density)
pins: 1 ~{MCLR} (in), 2 RA0/AN0/C1INA/ULPWU/RP0 (io), 3 RA1/AN1/C2INA/RP1 (io), 4 RA2/AN2/VREF-/CVREF/C2INB (io), 5 RA3/AN3/VREF+/C1INB (io), 6 VDDCORE/VCAP (power), 7 RA5/AN4/~{SS1}/HLVDIN/RCV/RP2 (io), 8 VSS (power), 9 OSC1/CLKI/RA7 (io), 10 OSC2/CLKO/RA6 (io), 11 RC0/T1OSO/T1CKI/RP11 (io), 12 RC1/T1OSI/~{UOE}/RP12 (io), 13 RC2/AN11/CTPLS/RP13 (io), 14 VUSB (power), 15 RC4/D-/VM (io), 16 RC5/D+/VP (io), 17 RC6/TX1/CK1/RP17 (io), 18 RC7/RX1/DT1/SDO1/RP18 (io), 19 VSS (power), 20 VDD (power), 21 RB0/AN12/INT0/RP3 (io), 22 RB1/AN10/RTCC/RP4 (io), 23 RB2/AN8/CTEDG1/VMO/REFO/RP5 (io), 24 RB3/AN9/CTEDG2/VPO/RP6 (io), 25 RB4/KBI0/SCK1/SCL1/RP7 (io), 26 RB5/KBI1/SDI1/SDA1/RP8 (io), 27 RB6/KBI2/PGC/RP9 (io), 28 RB7/KBI3/PGD/RP10 (io)

## PIC18F26K20-E/ML
designator U?
Flash Microcontroller with 10-Bit A/D and nanoWatt Technology, 64K Flash, 28-Pin QFN, Extended Temperature Range; Published: 29-Jan-2009; LatestRevisionDate: 02-Dec-2009; LatestRevisionNote: Updated to datasheet revision F, Sep-2009; DatasheetVersion: revF, Sep-2009; PackageVersion: revBB, Aug-2009; PackageReference: QFN-ML28; Publisher: Altium Limited; PackageDescription: 28-Lead Plastic Quad Flat, No Lead Package (ML) - 6x6 mm Body [QFN] with 0.55 mm Contact Length; Supplier 1: Digi-Key; Supplier Part Number 1: PIC18F26K20-E/ML-ND; Supplier 2: Farnell; Supplier Part Number 2: 1695552; Code_JEDEC: MO-220; Code_IPC: QFN65P600X600-28V; ComponentLink1Description: Datasheet; ComponentLink1URL: http://ww1.microchip.com/downloads/en/DeviceDoc/41303F.pdf; ComponentLink2Description: Packaging Specification; ComponentLink2URL: http://www.microchip.com/stellent/groups/techpub_sg/documents/packagingspec/en012702.pdf; ComponentLink3Description: Microchip.com Home; ComponentLink3URL: http://www.microchip.com/
footprint QFN-ML28_N (QFN, 28-Leads, Body 6x6 mm, Pitch 0.65mm, IPC Medium Density)
footprint QFN-ML28_L (QFN, 28-Leads, Body 6x6 mm, Pitch 0.65mm, IPC High Density)
footprint QFN-ML28_M (QFN, 28-Leads, Body 6x6 mm, Pitch 0.65mm, IPC Low Density)
pins: 1 RA2/AN2/VREF-/CVREF/C2IN+ (io), 2 RA3/AN3/VREF+/C1IN+ (io), 3 RA4/T0CKI/C1OUT (io), 4 RA5/AN4/~{SS}/HLVDIN/C2OUT (io), 5 VSS (power), 6 OSC1/CLKIN/RA7 (io), 7 OSC2/CLKOUT/RA6 (io), 8 RC0/T1OSO/T13CKI (io), 9 RC1/T1OSI/CCP2 (io), 10 RC2/CCP1/P1A (io), 11 RC3/SCK/SCL (io), 12 RC4/SDI/SDA (io), 13 RC5/SDO (io), 14 RC6/TX/CK (io), 15 RC7/RX/DT (io), 16 VSS (power), 17 VDD (power), 18 RB0/INT0/FLT0/AN12 (io), 19 RB1/INT1/AN10/C12IN3-/P1C (io), 20 RB2/INT2/AN8/P1B (io), 21 RB3/AN9/C12IN2-/CCP2 (io), 22 RB4/KBI0/AN11/P1D (io), 23 RB5/KBI1/PGM (io), 24 RB6/KBI2/PGC (io), 25 RB7/KBI3/PGD (io), 26 ~{MCLR}/VPP/RE3 (in), 27 RA0/AN0/C12IN0- (io), 28 RA1/AN1/C12IN1- (io), 29 Thermal Pad (power)

## PIC18F26K20-E/SO
designator U?
Flash Microcontroller with 10-Bit A/D and nanoWatt Technology, 64K Flash, 28-Pin SOIC, Extended Temperature Range; Published: 29-Jan-2009; LatestRevisionDate: 02-Dec-2009; LatestRevisionNote: Updated to datasheet revision F, Sep-2009; DatasheetVersion: revF, Sep-2009; PackageVersion: revBB, Aug-2009; PackageReference: SOIC-SO28; Publisher: Altium Limited; PackageDescription: 28-Lead Plastic Small Outline (SO) - Wide 7.50mm Body [SOIC]; Supplier 1: Digi-Key; Supplier Part Number 1: PIC18F26K20-E/SO-ND; Supplier 2: Farnell; Supplier Part Number 2: 1672128; Code_JEDEC: MS-013; ComponentLink1Description: Datasheet; ComponentLink1URL: http://ww1.microchip.com/downloads/en/DeviceDoc/41303F.pdf; ComponentLink2Description: Packaging Specification; ComponentLink2URL: http://www.microchip.com/stellent/groups/techpub_sg/documents/packagingspec/en012702.pdf; ComponentLink3Description: Microchip.com Home; ComponentLink3URL: http://www.microchip.com/
footprint SOIC-SO28_N (SOIC, 28-Leads, Body 17.9x7.5mm, Pitch 1.27mm, IPC Medium Density)
footprint SOIC-SO28_L (SOIC, 28-Leads, Body 17.9x7.5mm, Pitch 1.27mm, IPC High Density)
footprint SOIC-SO28_M (SOIC, 28-Leads, Body 17.9x7.5mm, Pitch 1.27mm, IPC Low Density)
pins: 1 ~{MCLR}/VPP/RE3 (in), 2 RA0/AN0/C12IN0- (io), 3 RA1/AN1/C12IN1- (io), 4 RA2/AN2/VREF-/CVREF/C2IN+ (io), 5 RA3/AN3/VREF+/C1IN+ (io), 6 RA4/T0CKI/C1OUT (io), 7 RA5/AN4/~{SS}/HLVDIN/C2OUT (io), 8 VSS (power), 9 OSC1/CLKIN/RA7 (io), 10 OSC2/CLKOUT/RA6 (io), 11 RC0/T1OSO/T13CKI (io), 12 RC1/T1OSI/CCP2 (io), 13 RC2/CCP1/P1A (io), 14 RC3/SCK/SCL (io), 15 RC4/SDI/SDA (io), 16 RC5/SDO (io), 17 RC6/TX/CK (io), 18 RC7/RX/DT (io), 19 VSS (power), 20 VDD (power), 21 RB0/INT0/FLT0/AN12 (io), 22 RB1/INT1/AN10/C12IN3-/P1C (io), 23 RB2/INT2/AN8/P1B (io), 24 RB3/AN9/C12IN2-/CCP2 (io), 25 RB4/KBI0/AN11/P1D (io), 26 RB5/KBI1/PGM (io), 27 RB6/KBI2/PGC (io), 28 RB7/KBI3/PGD (io)

## PIC18F26K20-E/SP
designator U?
Flash Microcontroller with 10-Bit A/D and nanoWatt Technology, 64K Flash, 28-Pin SPDIP, Extended Temperature Range; Published: 29-Jan-2009; LatestRevisionDate: 02-Dec-2009; LatestRevisionNote: Updated to datasheet revision F, Sep-2009; DatasheetVersion: revF, Sep-2009; PackageVersion: revBB, Aug-2009; PackageReference: SPDIP300-SP28; Publisher: Altium Limited; PackageDescription: 28-Lead Skinny Plastic Dual In-Line (SP) - 300 mil Body [SPDIP]; Supplier 1: Digi-Key; Supplier Part Number 1: PIC18F26K20-E/SP-ND; Supplier 2: Farnell; Supplier Part Number 2: 1664861; ComponentLink1Description: Datasheet; ComponentLink1URL: http://ww1.microchip.com/downloads/en/DeviceDoc/41303F.pdf; ComponentLink2Description: Packaging Specification; ComponentLink2URL: http://www.microchip.com/stellent/groups/techpub_sg/documents/packagingspec/en012702.pdf; ComponentLink3Description: Microchip.com Home; ComponentLink3URL: http://www.microchip.com/
footprint SPDIP300-SP28 (DIP, 28-Leads, Row Spacing 7.62mm, Pitch 2.54mm, Body 34.9x6.8mm)
pins: 1 ~{MCLR}/VPP/RE3 (in), 2 RA0/AN0/C12IN0- (io), 3 RA1/AN1/C12IN1- (io), 4 RA2/AN2/VREF-/CVREF/C2IN+ (io), 5 RA3/AN3/VREF+/C1IN+ (io), 6 RA4/T0CKI/C1OUT (io), 7 RA5/AN4/~{SS}/HLVDIN/C2OUT (io), 8 VSS (power), 9 OSC1/CLKIN/RA7 (io), 10 OSC2/CLKOUT/RA6 (io), 11 RC0/T1OSO/T13CKI (io), 12 RC1/T1OSI/CCP2 (io), 13 RC2/CCP1/P1A (io), 14 RC3/SCK/SCL (io), 15 RC4/SDI/SDA (io), 16 RC5/SDO (io), 17 RC6/TX/CK (io), 18 RC7/RX/DT (io), 19 VSS (power), 20 VDD (power), 21 RB0/INT0/FLT0/AN12 (io), 22 RB1/INT1/AN10/C12IN3-/P1C (io), 23 RB2/INT2/AN8/P1B (io), 24 RB3/AN9/C12IN2-/CCP2 (io), 25 RB4/KBI0/AN11/P1D (io), 26 RB5/KBI1/PGM (io), 27 RB6/KBI2/PGC (io), 28 RB7/KBI3/PGD (io)

## PIC18F26K20-E/SS
designator U?
Flash Microcontroller with 10-Bit A/D and nanoWatt Technology, 64K Flash, 28-Pin SSOP, Extended Temperature Range; Published: 29-Jan-2009; LatestRevisionDate: 02-Dec-2009; LatestRevisionNote: Updated to datasheet revision F, Sep-2009; DatasheetVersion: revF, Sep-2009; PackageVersion: revBB, Aug-2009; PackageReference: SSOP-SS28; Publisher: Altium Limited; PackageDescription: 28-Lead Plastic Shrink Small Outline (SS) - 5.3mm Body [SSOP]; Supplier 1: Digi-Key; Supplier Part Number 1: PIC18F26K20-E/SS-ND; Supplier 2: Farnell; Supplier Part Number 2: 1664860; Code_JEDEC: MS-150; Code_IPC: SOP65P780-28; ComponentLink1Description: Datasheet; ComponentLink1URL: http://ww1.microchip.com/downloads/en/DeviceDoc/41303F.pdf; ComponentLink2Description: Packaging Specification; ComponentLink2URL: http://www.microchip.com/stellent/groups/techpub_sg/documents/packagingspec/en012702.pdf; ComponentLink3Description: Microchip.com Home; ComponentLink3URL: http://www.microchip.com/
footprint SSOP-SS28_N (SOP, 28-Leads, Body 10.2x5.2mm, Pitch 0.65mm, IPC Medium Density)
footprint SSOP-SS28_L (SOP, 28-Leads, Body 10.2x5.2mm, Pitch 0.65mm, IPC High Density)
footprint SSOP-SS28_M (SOP, 28-Leads, Body 10.2x5.2mm, Pitch 0.65mm, IPC Low Density)
pins: 1 ~{MCLR}/VPP/RE3 (in), 2 RA0/AN0/C12IN0- (io), 3 RA1/AN1/C12IN1- (io), 4 RA2/AN2/VREF-/CVREF/C2IN+ (io), 5 RA3/AN3/VREF+/C1IN+ (io), 6 RA4/T0CKI/C1OUT (io), 7 RA5/AN4/~{SS}/HLVDIN/C2OUT (io), 8 VSS (power), 9 OSC1/CLKIN/RA7 (io), 10 OSC2/CLKOUT/RA6 (io), 11 RC0/T1OSO/T13CKI (io), 12 RC1/T1OSI/CCP2 (io), 13 RC2/CCP1/P1A (io), 14 RC3/SCK/SCL (io), 15 RC4/SDI/SDA (io), 16 RC5/SDO (io), 17 RC6/TX/CK (io), 18 RC7/RX/DT (io), 19 VSS (power), 20 VDD (power), 21 RB0/INT0/FLT0/AN12 (io), 22 RB1/INT1/AN10/C12IN3-/P1C (io), 23 RB2/INT2/AN8/P1B (io), 24 RB3/AN9/C12IN2-/CCP2 (io), 25 RB4/KBI0/AN11/P1D (io), 26 RB5/KBI1/PGM (io), 27 RB6/KBI2/PGC (io), 28 RB7/KBI3/PGD (io)

## PIC18F26K20-I/ML
designator U?
Flash Microcontroller with 10-Bit A/D and nanoWatt Technology, 64K Flash, 28-Pin QFN, Industrial Temperature Range; Published: 29-Jan-2009; LatestRevisionDate: 02-Dec-2009; LatestRevisionNote: Updated to datasheet revision F, Sep-2009; DatasheetVersion: revF, Sep-2009; PackageVersion: revBB, Aug-2009; PackageReference: QFN-ML28; Publisher: Altium Limited; PackageDescription: 28-Lead Plastic Quad Flat, No Lead Package (ML) - 6x6 mm Body [QFN] with 0.55 mm Contact Length; Supplier 1: Digi-Key; Supplier Part Number 1: PIC18F26K20-I/ML-ND; Supplier 2: Farnell; Supplier Part Number 2: 1629786; Code_JEDEC: MO-220; Code_IPC: QFN65P600X600-28V; ComponentLink1Description: Datasheet; ComponentLink1URL: http://ww1.microchip.com/downloads/en/DeviceDoc/41303F.pdf; ComponentLink2Description: Packaging Specification; ComponentLink2URL: http://www.microchip.com/stellent/groups/techpub_sg/documents/packagingspec/en012702.pdf; ComponentLink3Description: Microchip.com Home; ComponentLink3URL: http://www.microchip.com/
footprint QFN-ML28_N (QFN, 28-Leads, Body 6x6 mm, Pitch 0.65mm, IPC Medium Density)
footprint QFN-ML28_L (QFN, 28-Leads, Body 6x6 mm, Pitch 0.65mm, IPC High Density)
footprint QFN-ML28_M (QFN, 28-Leads, Body 6x6 mm, Pitch 0.65mm, IPC Low Density)
pins: 1 RA2/AN2/VREF-/CVREF/C2IN+ (io), 2 RA3/AN3/VREF+/C1IN+ (io), 3 RA4/T0CKI/C1OUT (io), 4 RA5/AN4/~{SS}/HLVDIN/C2OUT (io), 5 VSS (power), 6 OSC1/CLKIN/RA7 (io), 7 OSC2/CLKOUT/RA6 (io), 8 RC0/T1OSO/T13CKI (io), 9 RC1/T1OSI/CCP2 (io), 10 RC2/CCP1/P1A (io), 11 RC3/SCK/SCL (io), 12 RC4/SDI/SDA (io), 13 RC5/SDO (io), 14 RC6/TX/CK (io), 15 RC7/RX/DT (io), 16 VSS (power), 17 VDD (power), 18 RB0/INT0/FLT0/AN12 (io), 19 RB1/INT1/AN10/C12IN3-/P1C (io), 20 RB2/INT2/AN8/P1B (io), 21 RB3/AN9/C12IN2-/CCP2 (io), 22 RB4/KBI0/AN11/P1D (io), 23 RB5/KBI1/PGM (io), 24 RB6/KBI2/PGC (io), 25 RB7/KBI3/PGD (io), 26 ~{MCLR}/VPP/RE3 (in), 27 RA0/AN0/C12IN0- (io), 28 RA1/AN1/C12IN1- (io), 29 Thermal Pad (power)

## PIC18F26K20-I/SO
designator U?
Flash Microcontroller with 10-Bit A/D and nanoWatt Technology, 64K Flash, 28-Pin SOIC, Industrial Temperature Range; Published: 29-Jan-2009; LatestRevisionDate: 02-Dec-2009; LatestRevisionNote: Updated to datasheet revision F, Sep-2009; DatasheetVersion: revF, Sep-2009; PackageVersion: revBB, Aug-2009; PackageReference: SOIC-SO28; Publisher: Altium Limited; PackageDescription: 28-Lead Plastic Small Outline (SO) - Wide 7.50mm Body [SOIC]; Supplier 1: Digi-Key; Supplier Part Number 1: PIC18F26K20-I/SO-ND; Supplier 2: Farnell; Supplier Part Number 2: 1439580; Code_JEDEC: MS-013; ComponentLink1Description: Datasheet; ComponentLink1URL: http://ww1.microchip.com/downloads/en/DeviceDoc/41303F.pdf; ComponentLink2Description: Packaging Specification; ComponentLink2URL: http://www.microchip.com/stellent/groups/techpub_sg/documents/packagingspec/en012702.pdf; ComponentLink3Description: Microchip.com Home; ComponentLink3URL: http://www.microchip.com/
footprint SOIC-SO28_N (SOIC, 28-Leads, Body 17.9x7.5mm, Pitch 1.27mm, IPC Medium Density)
footprint SOIC-SO28_L (SOIC, 28-Leads, Body 17.9x7.5mm, Pitch 1.27mm, IPC High Density)
footprint SOIC-SO28_M (SOIC, 28-Leads, Body 17.9x7.5mm, Pitch 1.27mm, IPC Low Density)
pins: 1 ~{MCLR}/VPP/RE3 (in), 2 RA0/AN0/C12IN0- (io), 3 RA1/AN1/C12IN1- (io), 4 RA2/AN2/VREF-/CVREF/C2IN+ (io), 5 RA3/AN3/VREF+/C1IN+ (io), 6 RA4/T0CKI/C1OUT (io), 7 RA5/AN4/~{SS}/HLVDIN/C2OUT (io), 8 VSS (power), 9 OSC1/CLKIN/RA7 (io), 10 OSC2/CLKOUT/RA6 (io), 11 RC0/T1OSO/T13CKI (io), 12 RC1/T1OSI/CCP2 (io), 13 RC2/CCP1/P1A (io), 14 RC3/SCK/SCL (io), 15 RC4/SDI/SDA (io), 16 RC5/SDO (io), 17 RC6/TX/CK (io), 18 RC7/RX/DT (io), 19 VSS (power), 20 VDD (power), 21 RB0/INT0/FLT0/AN12 (io), 22 RB1/INT1/AN10/C12IN3-/P1C (io), 23 RB2/INT2/AN8/P1B (io), 24 RB3/AN9/C12IN2-/CCP2 (io), 25 RB4/KBI0/AN11/P1D (io), 26 RB5/KBI1/PGM (io), 27 RB6/KBI2/PGC (io), 28 RB7/KBI3/PGD (io)

## PIC18F26K20-I/SP
designator U?
Flash Microcontroller with 10-Bit A/D and nanoWatt Technology, 64K Flash, 28-Pin SPDIP, Industrial Temperature Range; Published: 29-Jan-2009; LatestRevisionDate: 02-Dec-2009; LatestRevisionNote: Updated to datasheet revision F, Sep-2009; DatasheetVersion: revF, Sep-2009; PackageVersion: revBB, Aug-2009; PackageReference: SPDIP300-SP28; Publisher: Altium Limited; PackageDescription: 28-Lead Skinny Plastic Dual In-Line (SP) - 300 mil Body [SPDIP]; Supplier 1: Digi-Key; Supplier Part Number 1: PIC18F26K20-I/SP-ND; Supplier 2: Farnell; Supplier Part Number 2: 1439581; ComponentLink1Description: Datasheet; ComponentLink1URL: http://ww1.microchip.com/downloads/en/DeviceDoc/41303F.pdf; ComponentLink2Description: Packaging Specification; ComponentLink2URL: http://www.microchip.com/stellent/groups/techpub_sg/documents/packagingspec/en012702.pdf; ComponentLink3Description: Microchip.com Home; ComponentLink3URL: http://www.microchip.com/
footprint SPDIP300-SP28 (DIP, 28-Leads, Row Spacing 7.62mm, Pitch 2.54mm, Body 34.9x6.8mm)
pins: 1 ~{MCLR}/VPP/RE3 (in), 2 RA0/AN0/C12IN0- (io), 3 RA1/AN1/C12IN1- (io), 4 RA2/AN2/VREF-/CVREF/C2IN+ (io), 5 RA3/AN3/VREF+/C1IN+ (io), 6 RA4/T0CKI/C1OUT (io), 7 RA5/AN4/~{SS}/HLVDIN/C2OUT (io), 8 VSS (power), 9 OSC1/CLKIN/RA7 (io), 10 OSC2/CLKOUT/RA6 (io), 11 RC0/T1OSO/T13CKI (io), 12 RC1/T1OSI/CCP2 (io), 13 RC2/CCP1/P1A (io), 14 RC3/SCK/SCL (io), 15 RC4/SDI/SDA (io), 16 RC5/SDO (io), 17 RC6/TX/CK (io), 18 RC7/RX/DT (io), 19 VSS (power), 20 VDD (power), 21 RB0/INT0/FLT0/AN12 (io), 22 RB1/INT1/AN10/C12IN3-/P1C (io), 23 RB2/INT2/AN8/P1B (io), 24 RB3/AN9/C12IN2-/CCP2 (io), 25 RB4/KBI0/AN11/P1D (io), 26 RB5/KBI1/PGM (io), 27 RB6/KBI2/PGC (io), 28 RB7/KBI3/PGD (io)

## PIC18F26K20-I/SS
designator U?
Flash Microcontroller with 10-Bit A/D and nanoWatt Technology, 64K Flash, 28-Pin SSOP, Industrial Temperature Range; Published: 29-Jan-2009; LatestRevisionDate: 02-Dec-2009; LatestRevisionNote: Updated to datasheet revision F, Sep-2009; DatasheetVersion: revF, Sep-2009; PackageVersion: revBB, Aug-2009; PackageReference: SSOP-SS28; Publisher: Altium Limited; PackageDescription: 28-Lead Plastic Shrink Small Outline (SS) - 5.3mm Body [SSOP]; Supplier 1: Digi-Key; Supplier Part Number 1: PIC18F26K20-I/SS-ND; Supplier 2: Farnell; Supplier Part Number 2: 1439582; Code_JEDEC: MS-150; Code_IPC: SOP65P780-28; ComponentLink1Description: Datasheet; ComponentLink1URL: http://ww1.microchip.com/downloads/en/DeviceDoc/41303F.pdf; ComponentLink2Description: Packaging Specification; ComponentLink2URL: http://www.microchip.com/stellent/groups/techpub_sg/documents/packagingspec/en012702.pdf; ComponentLink3Description: Microchip.com Home; ComponentLink3URL: http://www.microchip.com/
footprint SSOP-SS28_N (SOP, 28-Leads, Body 10.2x5.2mm, Pitch 0.65mm, IPC Medium Density)
footprint SSOP-SS28_L (SOP, 28-Leads, Body 10.2x5.2mm, Pitch 0.65mm, IPC High Density)
footprint SSOP-SS28_M (SOP, 28-Leads, Body 10.2x5.2mm, Pitch 0.65mm, IPC Low Density)
pins: 1 ~{MCLR}/VPP/RE3 (in), 2 RA0/AN0/C12IN0- (io), 3 RA1/AN1/C12IN1- (io), 4 RA2/AN2/VREF-/CVREF/C2IN+ (io), 5 RA3/AN3/VREF+/C1IN+ (io), 6 RA4/T0CKI/C1OUT (io), 7 RA5/AN4/~{SS}/HLVDIN/C2OUT (io), 8 VSS (power), 9 OSC1/CLKIN/RA7 (io), 10 OSC2/CLKOUT/RA6 (io), 11 RC0/T1OSO/T13CKI (io), 12 RC1/T1OSI/CCP2 (io), 13 RC2/CCP1/P1A (io), 14 RC3/SCK/SCL (io), 15 RC4/SDI/SDA (io), 16 RC5/SDO (io), 17 RC6/TX/CK (io), 18 RC7/RX/DT (io), 19 VSS (power), 20 VDD (power), 21 RB0/INT0/FLT0/AN12 (io), 22 RB1/INT1/AN10/C12IN3-/P1C (io), 23 RB2/INT2/AN8/P1B (io), 24 RB3/AN9/C12IN2-/CCP2 (io), 25 RB4/KBI0/AN11/P1D (io), 26 RB5/KBI1/PGM (io), 27 RB6/KBI2/PGC (io), 28 RB7/KBI3/PGD (io)

## PIC18F26K20T-E/ML
designator U?
Flash Microcontroller with 10-Bit A/D and nanoWatt Technology, 64K Flash, 28-Pin QFN, Extended Temperature Range, Tape and Reel; Published: 2-Dec-2009; DatasheetVersion: revF, Sep-2009; PackageVersion: revBB, Aug-2009; PackageReference: QFN-ML28; Publisher: Altium Limited; PackageDescription: 28-Lead Plastic Quad Flat, No Lead Package (ML) - 6x6 mm Body [QFN] with 0.55 mm Contact Length; Code_JEDEC: MO-220; Code_IPC: QFN65P600X600-28V; ComponentLink1Description: Datasheet; ComponentLink1URL: http://ww1.microchip.com/downloads/en/DeviceDoc/41303F.pdf; ComponentLink2Description: Packaging Specification; ComponentLink2URL: http://www.microchip.com/stellent/groups/techpub_sg/documents/packagingspec/en012702.pdf; ComponentLink3Description: Microchip.com Home; ComponentLink3URL: http://www.microchip.com/
footprint QFN-ML28_N (QFN, 28-Leads, Body 6x6 mm, Pitch 0.65mm, IPC Medium Density)
footprint QFN-ML28_L (QFN, 28-Leads, Body 6x6 mm, Pitch 0.65mm, IPC High Density)
footprint QFN-ML28_M (QFN, 28-Leads, Body 6x6 mm, Pitch 0.65mm, IPC Low Density)
pins: 1 RA2/AN2/VREF-/CVREF/C2IN+ (io), 2 RA3/AN3/VREF+/C1IN+ (io), 3 RA4/T0CKI/C1OUT (io), 4 RA5/AN4/~{SS}/HLVDIN/C2OUT (io), 5 VSS (power), 6 OSC1/CLKIN/RA7 (io), 7 OSC2/CLKOUT/RA6 (io), 8 RC0/T1OSO/T13CKI (io), 9 RC1/T1OSI/CCP2 (io), 10 RC2/CCP1/P1A (io), 11 RC3/SCK/SCL (io), 12 RC4/SDI/SDA (io), 13 RC5/SDO (io), 14 RC6/TX/CK (io), 15 RC7/RX/DT (io), 16 VSS (power), 17 VDD (power), 18 RB0/INT0/FLT0/AN12 (io), 19 RB1/INT1/AN10/C12IN3-/P1C (io), 20 RB2/INT2/AN8/P1B (io), 21 RB3/AN9/C12IN2-/CCP2 (io), 22 RB4/KBI0/AN11/P1D (io), 23 RB5/KBI1/PGM (io), 24 RB6/KBI2/PGC (io), 25 RB7/KBI3/PGD (io), 26 ~{MCLR}/VPP/RE3 (in), 27 RA0/AN0/C12IN0- (io), 28 RA1/AN1/C12IN1- (io), 29 Thermal Pad (power)

## PIC18F26K20T-E/SS
designator U?
Flash Microcontroller with 10-Bit A/D and nanoWatt Technology, 64K Flash, 28-Pin SSOP, Extended Temperature Range, Tape and Reel; Published: 2-Dec-2009; DatasheetVersion: revF, Sep-2009; PackageVersion: revBB, Aug-2009; PackageReference: SSOP-SS28; Publisher: Altium Limited; PackageDescription: 28-Lead Plastic Shrink Small Outline (SS) - 5.3mm Body [SSOP]; Code_JEDEC: MS-150; Code_IPC: SOP65P780-28; ComponentLink1Description: Datasheet; ComponentLink1URL: http://ww1.microchip.com/downloads/en/DeviceDoc/41303F.pdf; ComponentLink2Description: Packaging Specification; ComponentLink2URL: http://www.microchip.com/stellent/groups/techpub_sg/documents/packagingspec/en012702.pdf; ComponentLink3Description: Microchip.com Home; ComponentLink3URL: http://www.microchip.com/
footprint SSOP-SS28_N (SOP, 28-Leads, Body 10.2x5.2mm, Pitch 0.65mm, IPC Medium Density)
footprint SSOP-SS28_L (SOP, 28-Leads, Body 10.2x5.2mm, Pitch 0.65mm, IPC High Density)
footprint SSOP-SS28_M (SOP, 28-Leads, Body 10.2x5.2mm, Pitch 0.65mm, IPC Low Density)
pins: 1 ~{MCLR}/VPP/RE3 (in), 2 RA0/AN0/C12IN0- (io), 3 RA1/AN1/C12IN1- (io), 4 RA2/AN2/VREF-/CVREF/C2IN+ (io), 5 RA3/AN3/VREF+/C1IN+ (io), 6 RA4/T0CKI/C1OUT (io), 7 RA5/AN4/~{SS}/HLVDIN/C2OUT (io), 8 VSS (power), 9 OSC1/CLKIN/RA7 (io), 10 OSC2/CLKOUT/RA6 (io), 11 RC0/T1OSO/T13CKI (io), 12 RC1/T1OSI/CCP2 (io), 13 RC2/CCP1/P1A (io), 14 RC3/SCK/SCL (io), 15 RC4/SDI/SDA (io), 16 RC5/SDO (io), 17 RC6/TX/CK (io), 18 RC7/RX/DT (io), 19 VSS (power), 20 VDD (power), 21 RB0/INT0/FLT0/AN12 (io), 22 RB1/INT1/AN10/C12IN3-/P1C (io), 23 RB2/INT2/AN8/P1B (io), 24 RB3/AN9/C12IN2-/CCP2 (io), 25 RB4/KBI0/AN11/P1D (io), 26 RB5/KBI1/PGM (io), 27 RB6/KBI2/PGC (io), 28 RB7/KBI3/PGD (io)

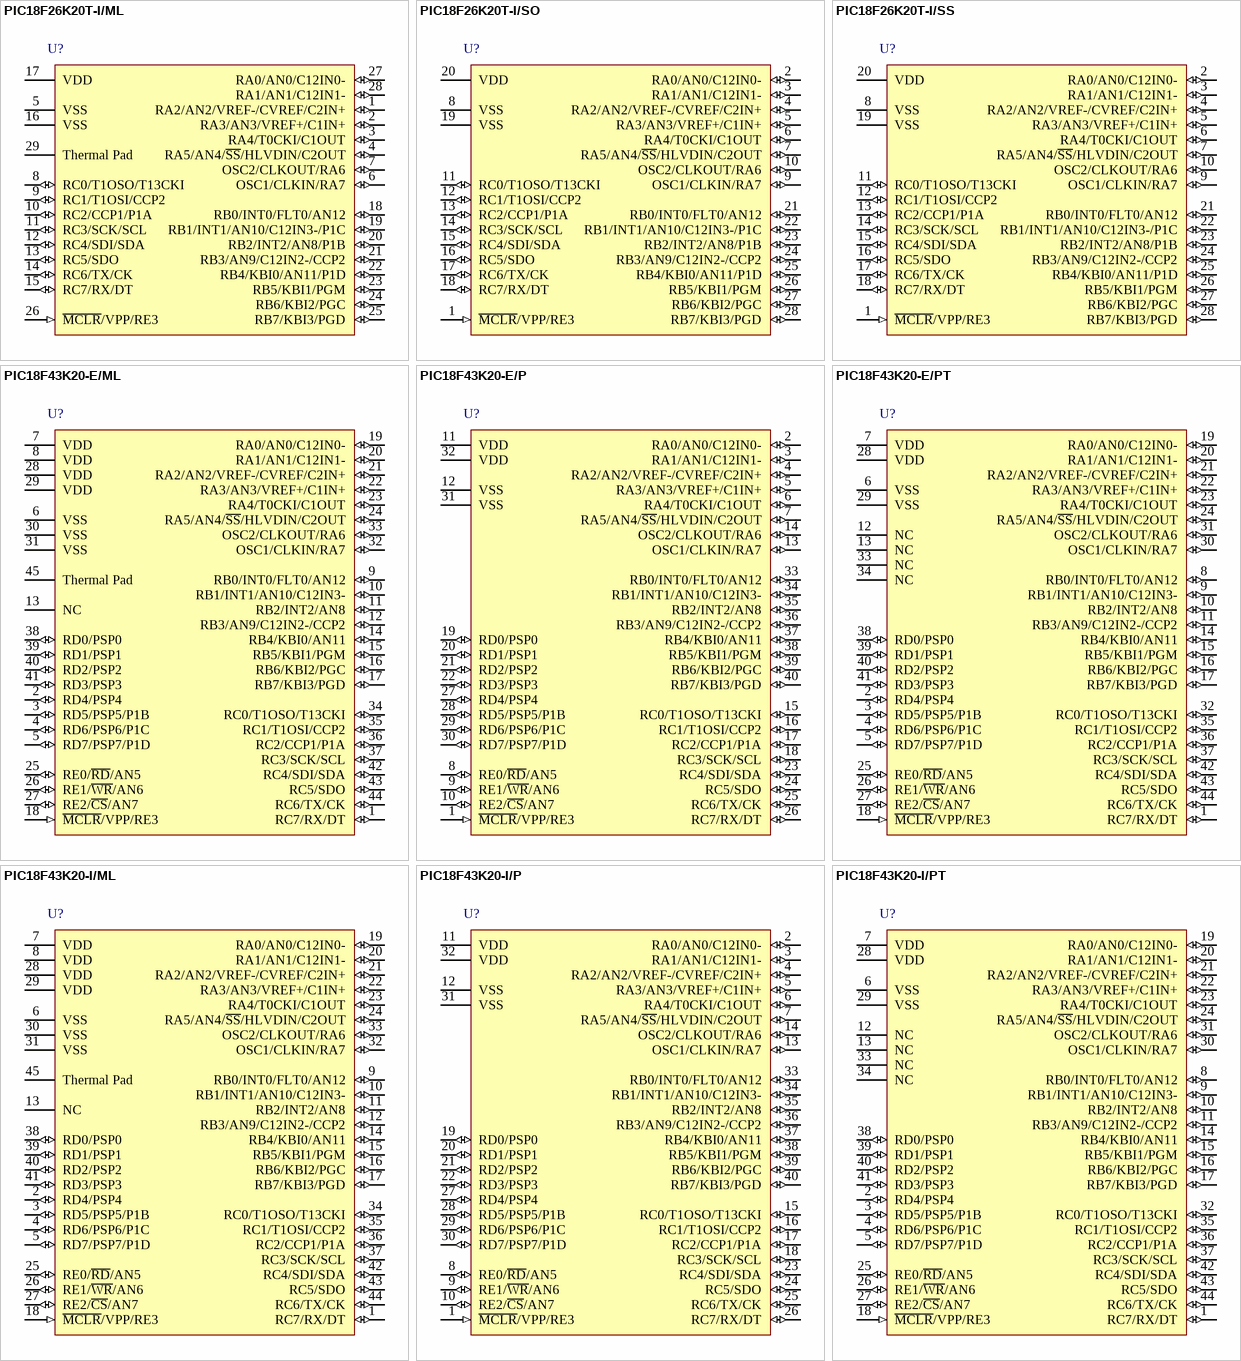
[diagram p12: symbols PIC18F26K20T-I/ML to PIC18F43K20-I/PT]